# Altium footprint library Transistor.PcbLib: 227 footprints (part 9 of 15)
Each footprint in its own frame and in the unit in brackets; x right, y up, seen from the top. Pads: shape width x height; smd on the part's side, far side on the other; paste and mask are expansions set on the pad; w line width, h text height; cw(c..) or ccw(c..) is an arc to the next point about the centre after c.
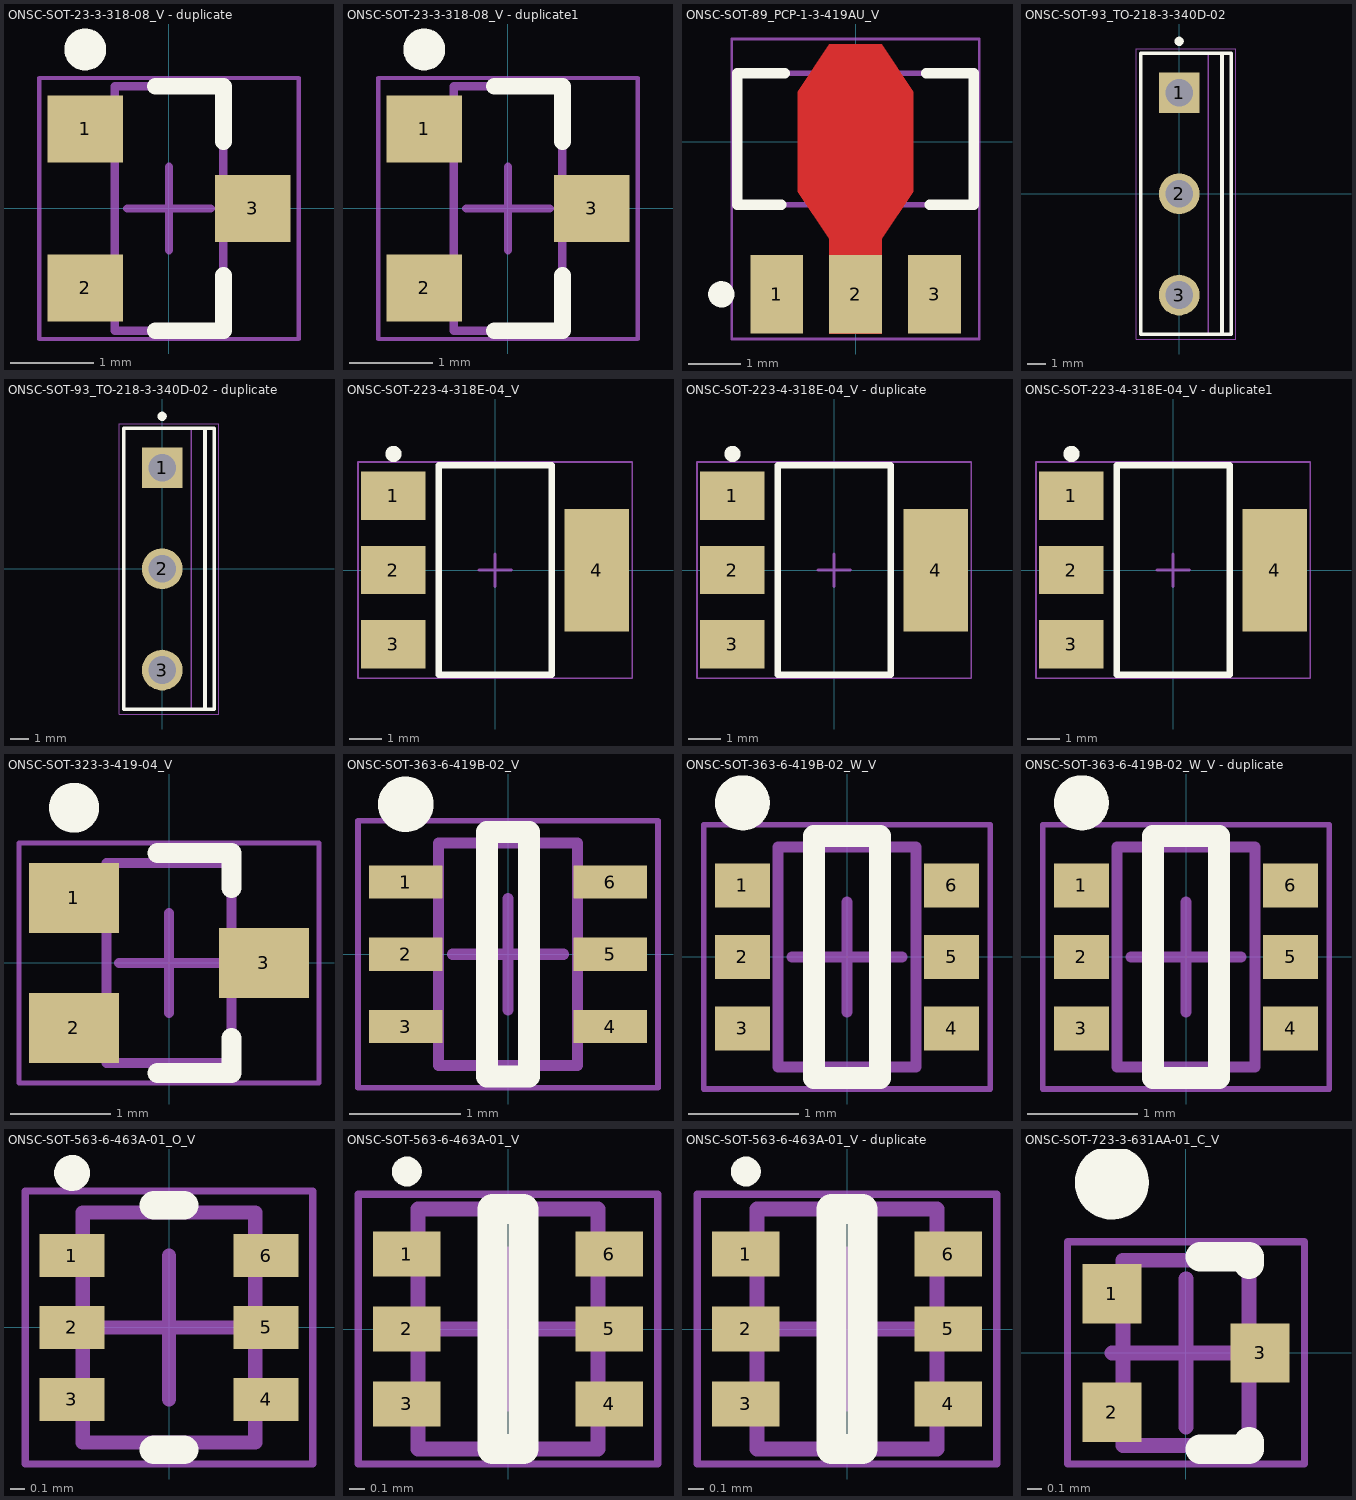
[diagram p8: the footprints below, top view; thin cyan lines are the x and y axes]

## ONSC-SOT-23-3-318-08_V - duplicate [mm] "SOT23, 3-Leads, Body 2.92x1.3mm, Pitch 0.95mm"
height 1.11
pads (3):
  rect 0.9x0.8 smd: 1(-1,0.95) 2(-1,-0.95) 3(1,0)
Top Overlay:
  circle w0.25: c-1,1.9 r0.125
  lines w0.2: -0.165,-1.46 0.65,-1.46 0.65,-0.8 ; -0.165,1.46 0.65,1.46 0.65,0.8
Mechanical 13:
  lines w0.1: -0.65,-1.46 -0.65,1.46 0.65,1.46 0.65,-1.46 -0.65,-1.46
Mechanical 15:
  lines w0.05: -1.55,-1.56 -1.55,1.56 1.55,1.56 1.55,-1.56 -1.55,-1.56
  lines w0.1: -0.5,0 0.5,0 ; 0,-0.5 0,0.5
3D body: height 1.11, standoff 0.01, extent -0.65,-1.46 0.65,1.46

## ONSC-SOT-23-3-318-08_V - duplicate1 [mm] "SOT23, 3-Leads, Body 2.92x1.3mm, Pitch 0.95mm"
height 1.11
pads (3):
  rect 0.9x0.8 smd: 1(-1,0.95) 2(-1,-0.95) 3(1,0)
Top Overlay:
  circle w0.25: c-1,1.9 r0.125
  lines w0.2: -0.165,-1.46 0.65,-1.46 0.65,-0.8 ; -0.165,1.46 0.65,1.46 0.65,0.8
Mechanical 13:
  lines w0.1: -0.65,-1.46 -0.65,1.46 0.65,1.46 0.65,-1.46 -0.65,-1.46
Mechanical 15:
  lines w0.05: -1.55,-1.56 -1.55,1.56 1.55,1.56 1.55,-1.56 -1.55,-1.56
  lines w0.1: -0.5,0 0.5,0 ; 0,-0.5 0,0.5
3D body: height 1.11, standoff 0.01, extent -0.65,-1.46 0.65,1.46

## ONSC-SOT-89_PCP-1-3-419AU_V [mm] "SOT89, 3-Leads, Body 4.5x2.5mm, Pitch 1.5mm"
height 1.6
pads (3):
  rect 1x1.5 smd: 1(-1.5,-2.9) 2(0,-2.9) 3(1.5,-2.9)
Top Layer:
  region: -0.5,-3.65 -0.5,-1.85 -1.1,-0.95 -1.1,0.95 -0.5,1.85 0.5,1.85 1.1,0.95 1.1,-0.95 0.5,-1.85 0.5,-3.65
Top Overlay:
  circle w0.25: c-2.55,-2.9 r0.125
  lines w0.2: -1.414,-1.2 -2.25,-1.2 -2.25,1.3 -1.347,1.3 ; 1.347,1.3 2.25,1.3 2.25,-1.2 1.414,-1.2
Top Paste:
  region: -0.5,-3.65 -0.5,-1.85 -1.1,-0.95 -1.1,0.95 -0.5,1.85 0.5,1.85 1.1,0.95 1.1,-0.95 0.5,-1.85 0.5,-3.65
Mechanical 13:
  lines w0.1: -2.25,-1.2 -2.25,1.3 2.25,1.3 2.25,-1.2 -2.25,-1.2
Mechanical 15:
  lines w0.05: -0.5,0 0.5,0 ; 0,-0.5 0,0.5 ; -2.35,-3.75 2.35,-3.75 2.35,1.95 -2.35,1.95 -2.35,-3.75
3D body: height 1.6, standoff 0, extent -2.25,-1.2 2.25,1.3

## ONSC-SOT-93_TO-218-3-340D-02 [mm] "FM, 3-Leads, Body 15.2x4.9mm, Pitch 5.475mm"
height 22.35
pads (3):
  rect 2.2x2.2 hole 1.5: 1(0,5.475)
  round 2.2 hole 1.5: 2(0,0) 3(0,-5.475)
Top Overlay:
  circle w0.25: c0,8.25 r0.125
  lines w0.2: 2.32,-7.6 2.32,7.6 ; -2.08,-7.6 -2.08,7.6 2.82,7.6 2.82,-7.6 -2.08,-7.6
Mechanical 13:
  lines w0.1: 1.57,-7.6 1.57,7.6 ; -2.08,-7.6 2.82,-7.6 2.82,7.6 -2.08,7.6 -2.08,-7.6
Mechanical 15:
  lines w0.05: -2.33,-7.85 3.07,-7.85 3.07,7.85 -2.33,7.85 -2.33,-7.85
  lines w0.1: -0.5,0 0.5,0 ; 0,-0.5 0,0.5
3D body: height 22.35, standoff 20.23, extent 1.57,-7.475 2.82,7.475
3D body: height 18.6, standoff 18.2, extent 1.57,-7.475 2.82,-2.025
3D body: height 18.6, standoff 18.2, extent 1.57,2.025 2.82,7.475
3D body: height 18.2, standoff 17.8, extent 1.57,-7.475 2.82,-2.025
3D body: height 18.2, standoff 17.8, extent 1.57,2.025 2.82,7.475
3D body: height 18.98, standoff 18.6, extent 1.57,-7.475 2.82,-1.986
3D body: height 18.98, standoff 18.6, extent 1.57,1.986 2.82,7.475
3D body: height 17.81, standoff 17.43, extent 1.57,-7.475 2.82,-1.986
3D body: height 17.81, standoff 17.43, extent 1.57,1.986 2.82,7.475
3D body: height 19.33, standoff 18.97, extent 1.57,-7.475 2.82,-1.871
3D body: height 19.33, standoff 18.97, extent 1.57,1.871 2.82,7.475
3D body: height 17.43, standoff 17.07, extent 1.57,-7.475 2.82,-1.871
3D body: height 17.43, standoff 17.07, extent 1.57,1.871 2.82,7.475
3D body: height 19.64, standoff 19.33, extent 1.57,-7.475 2.82,-1.684
3D body: height 19.64, standoff 19.33, extent 1.57,1.684 2.82,7.475
3D body: height 17.08, standoff 16.77, extent 1.57,-7.475 2.82,-1.684
3D body: height 17.08, standoff 16.77, extent 1.57,1.684 2.82,7.475
3D body: height 19.89, standoff 19.63, extent 1.57,-7.475 2.82,-1.432
3D body: height 19.89, standoff 19.63, extent 1.57,1.432 2.82,7.475
3D body: height 16.77, standoff 16.52, extent 1.57,-7.475 2.82,-1.432
3D body: height 16.77, standoff 16.52, extent 1.57,1.432 2.82,7.475
3D body: height 20.08, standoff 19.88, extent 1.57,-7.475 2.82,-1.125
3D body: height 20.08, standoff 19.88, extent 1.57,1.125 2.82,7.475
3D body: height 16.52, standoff 16.33, extent 1.57,-7.475 2.82,-1.125
3D body: height 16.52, standoff 16.33, extent 1.57,1.125 2.82,7.475
3D body: height 20.19, standoff 20.07, extent 1.57,-7.475 2.82,-0.775
3D body: height 20.19, standoff 20.07, extent 1.57,0.775 2.82,7.475
3D body: height 16.33, standoff 16.21, extent 1.57,-7.475 2.82,-0.775
3D body: height 16.33, standoff 16.21, extent 1.57,0.775 2.82,7.475
3D body: height 20.23, standoff 20.19, extent 1.57,-7.475 2.82,-0.395
3D body: height 20.23, standoff 20.19, extent 1.57,0.395 2.82,7.475
3D body: height 16.22, standoff 16.18, extent 1.57,-7.475 2.82,-0.395
3D body: height 16.22, standoff 16.18, extent 1.57,0.395 2.82,7.475
3D body: height 16.18, standoff 14.2, extent 1.57,-7.475 2.82,7.475
3D body: height 14.2, standoff 1.6, extent -2.08,-7.6 2.82,7.6
3D body: height 0, standoff -1.6, extent -0.32,-6.075 0.32,-4.875
3D body: height 1.6, standoff 0, extent -0.32,-6.275 0.32,-4.675
3D body: height 0, standoff -1.6, extent -0.32,-0.6 0.32,0.6
3D body: height 1.6, standoff 0, extent -0.32,-0.8 0.32,0.8
3D body: height 0, standoff -1.6, extent -0.32,4.875 0.32,6.075
3D body: height 1.6, standoff 0, extent -0.32,4.675 0.32,6.275

## ONSC-SOT-93_TO-218-3-340D-02 - duplicate [mm] "FM, 3-Leads, Body 15.2x4.9mm, Pitch 5.475mm"
height 22.35
pads (3):
  rect 2.2x2.2 hole 1.5: 1(0,5.475)
  round 2.2 hole 1.5: 2(0,0) 3(0,-5.475)
Top Overlay:
  circle w0.25: c0,8.25 r0.125
  lines w0.2: 2.32,-7.6 2.32,7.6 ; -2.08,-7.6 -2.08,7.6 2.82,7.6 2.82,-7.6 -2.08,-7.6
Mechanical 13:
  lines w0.1: 1.57,-7.6 1.57,7.6 ; -2.08,-7.6 2.82,-7.6 2.82,7.6 -2.08,7.6 -2.08,-7.6
Mechanical 15:
  lines w0.05: -2.33,-7.85 3.07,-7.85 3.07,7.85 -2.33,7.85 -2.33,-7.85
  lines w0.1: -0.5,0 0.5,0 ; 0,-0.5 0,0.5
3D body: height 22.35, standoff 20.23, extent 1.57,-7.475 2.82,7.475
3D body: height 18.6, standoff 18.2, extent 1.57,-7.475 2.82,-2.025
3D body: height 18.6, standoff 18.2, extent 1.57,2.025 2.82,7.475
3D body: height 18.2, standoff 17.8, extent 1.57,-7.475 2.82,-2.025
3D body: height 18.2, standoff 17.8, extent 1.57,2.025 2.82,7.475
3D body: height 18.98, standoff 18.6, extent 1.57,-7.475 2.82,-1.986
3D body: height 18.98, standoff 18.6, extent 1.57,1.986 2.82,7.475
3D body: height 17.81, standoff 17.43, extent 1.57,-7.475 2.82,-1.986
3D body: height 17.81, standoff 17.43, extent 1.57,1.986 2.82,7.475
3D body: height 19.33, standoff 18.97, extent 1.57,-7.475 2.82,-1.871
3D body: height 19.33, standoff 18.97, extent 1.57,1.871 2.82,7.475
3D body: height 17.43, standoff 17.07, extent 1.57,-7.475 2.82,-1.871
3D body: height 17.43, standoff 17.07, extent 1.57,1.871 2.82,7.475
3D body: height 19.64, standoff 19.33, extent 1.57,-7.475 2.82,-1.684
3D body: height 19.64, standoff 19.33, extent 1.57,1.684 2.82,7.475
3D body: height 17.08, standoff 16.77, extent 1.57,-7.475 2.82,-1.684
3D body: height 17.08, standoff 16.77, extent 1.57,1.684 2.82,7.475
3D body: height 19.89, standoff 19.63, extent 1.57,-7.475 2.82,-1.432
3D body: height 19.89, standoff 19.63, extent 1.57,1.432 2.82,7.475
3D body: height 16.77, standoff 16.52, extent 1.57,-7.475 2.82,-1.432
3D body: height 16.77, standoff 16.52, extent 1.57,1.432 2.82,7.475
3D body: height 20.08, standoff 19.88, extent 1.57,-7.475 2.82,-1.125
3D body: height 20.08, standoff 19.88, extent 1.57,1.125 2.82,7.475
3D body: height 16.52, standoff 16.33, extent 1.57,-7.475 2.82,-1.125
3D body: height 16.52, standoff 16.33, extent 1.57,1.125 2.82,7.475
3D body: height 20.19, standoff 20.07, extent 1.57,-7.475 2.82,-0.775
3D body: height 20.19, standoff 20.07, extent 1.57,0.775 2.82,7.475
3D body: height 16.33, standoff 16.21, extent 1.57,-7.475 2.82,-0.775
3D body: height 16.33, standoff 16.21, extent 1.57,0.775 2.82,7.475
3D body: height 20.23, standoff 20.19, extent 1.57,-7.475 2.82,-0.395
3D body: height 20.23, standoff 20.19, extent 1.57,0.395 2.82,7.475
3D body: height 16.22, standoff 16.18, extent 1.57,-7.475 2.82,-0.395
3D body: height 16.22, standoff 16.18, extent 1.57,0.395 2.82,7.475
3D body: height 16.18, standoff 14.2, extent 1.57,-7.475 2.82,7.475
3D body: height 14.2, standoff 1.6, extent -2.08,-7.6 2.82,7.6
3D body: height 0, standoff -1.6, extent -0.32,-6.075 0.32,-4.875
3D body: height 1.6, standoff 0, extent -0.32,-6.275 0.32,-4.675
3D body: height 0, standoff -1.6, extent -0.32,-0.6 0.32,0.6
3D body: height 1.6, standoff 0, extent -0.32,-0.8 0.32,0.8
3D body: height 0, standoff -1.6, extent -0.32,4.875 0.32,6.075
3D body: height 1.6, standoff 0, extent -0.32,4.675 0.32,6.275

## ONSC-SOT-223-4-318E-04_V [mm] "SOT223, 4-Leads, Body 6.5x3.5mm, Pitch 2.3mm"
height 1.75
pads (4):
  rect 2x1.5 smd: 1(-3.15,2.3) 2(-3.15,0) 3(-3.15,-2.3)
  rect 2x3.8 smd: 4(3.15,0)
Top Overlay:
  circle w0.25: c-3.15,3.6 r0.125
  lines w0.2: -1.75,-3.25 1.75,-3.25 1.75,3.25 -1.75,3.25 -1.75,-3.2
Mechanical 13:
  lines w0.1: -1.75,-3.25 1.75,-3.25 1.75,3.25 -1.75,3.25 -1.75,-3.25
Mechanical 15:
  lines w0.05: -4.25,-3.35 -4.25,3.35 4.25,3.35 4.25,-3.35 -4.25,-3.35
  lines w0.1: -0.5,0 0.5,0 ; 0,-0.5 0,0.5
3D body: height 1.75, standoff 0.02, extent -1.75,-3.25 1.75,3.25

## ONSC-SOT-223-4-318E-04_V - duplicate [mm] "SOT223, 4-Leads, Body 6.5x3.5mm, Pitch 2.3mm"
height 1.75
pads (4):
  rect 2x1.5 smd: 1(-3.15,2.3) 2(-3.15,0) 3(-3.15,-2.3)
  rect 2x3.8 smd: 4(3.15,0)
Top Overlay:
  circle w0.25: c-3.15,3.6 r0.125
  lines w0.2: -1.75,-3.25 1.75,-3.25 1.75,3.25 -1.75,3.25 -1.75,-3.2
Mechanical 13:
  lines w0.1: -1.75,-3.25 -1.75,3.25 1.75,3.25 1.75,-3.25 -1.75,-3.25
Mechanical 15:
  lines w0.05: -4.25,-3.35 4.25,-3.35 4.25,3.35 -4.25,3.35 -4.25,-3.35
  lines w0.1: -0.5,0 0.5,0 ; 0,-0.5 0,0.5
3D body: height 1.75, standoff 0.02, extent -1.75,-3.25 1.75,3.25

## ONSC-SOT-223-4-318E-04_V - duplicate1 [mm] "SOT223, 4-Leads, Body 6.5x3.5mm, Pitch 2.3mm"
height 1.75
pads (4):
  rect 2x1.5 smd: 1(-3.15,2.3) 2(-3.15,0) 3(-3.15,-2.3)
  rect 2x3.8 smd: 4(3.15,0)
Top Overlay:
  circle w0.25: c-3.15,3.6 r0.125
  lines w0.2: -1.75,-3.25 1.75,-3.25 1.75,3.25 -1.75,3.25 -1.75,-3.2
Mechanical 13:
  lines w0.1: -1.75,-3.25 -1.75,3.25 1.75,3.25 1.75,-3.25 -1.75,-3.25
Mechanical 15:
  lines w0.05: -4.25,-3.35 4.25,-3.35 4.25,3.35 -4.25,3.35 -4.25,-3.35
  lines w0.1: -0.5,0 0.5,0 ; 0,-0.5 0,0.5
3D body: height 1.75, standoff 0.02, extent -1.75,-3.25 1.75,3.25

## ONSC-SOT-323-3-419-04_V [mm] "SOT23, 3-Leads, Body 2x1.25mm, Pitch 0.65mm"
height 1
pads (3):
  rect 0.9x0.7 smd: 1(-0.95,0.65) 2(-0.95,-0.65) 3(0.95,0)
Top Overlay:
  circle w0.25: c-0.95,1.55 r0.125
  lines w0.2: -0.113,-1.1 0.625,-1.1 0.625,-0.75 ; -0.113,1.1 0.625,1.1 0.625,0.75
Mechanical 13:
  lines w0.1: -0.625,-1 0.625,-1 0.625,1 -0.625,1 -0.625,-1
Mechanical 15:
  lines w0.05: -1.5,-1.2 1.5,-1.2 1.5,1.2 -1.5,1.2 -1.5,-1.2
  lines w0.1: -0.5,0 0.5,0 ; 0,-0.5 0,0.5
3D body: height 1, standoff 0, extent -0.625,-1 0.625,1

## ONSC-SOT-363-6-419B-02_V [mm] "SOT23, 6-Leads, Body 2x1.25mm, Pitch 0.65mm"
height 1.1
pads (6):
  rect 0.66x0.3 smd: 1(-0.92,0.65) 2(-0.92,0) 3(-0.92,-0.65) 4(0.92,-0.65) 5(0.92,0) 6(0.92,0.65)
Top Overlay:
  circle w0.25: c-0.92,1.35 r0.125
  lines w0.2: -0.19,-1.1 -0.19,1.1 0.19,1.1 0.19,-1.1 -0.19,-1.1
Mechanical 13:
  lines w0.1: -0.625,-1 0.625,-1 0.625,1 -0.625,1 -0.625,-1
Mechanical 15:
  lines w0.05: -1.35,-1.2 1.35,-1.2 1.35,1.2 -1.35,1.2 -1.35,-1.2
  lines w0.1: -0.5,0 0.5,0 ; 0,-0.5 0,0.5
3D body: height 1.1, standoff 0, extent -0.625,-1 0.625,1

## ONSC-SOT-363-6-419B-02_W_V [mm] "SOT23, 6-Leads, Body 2x1.25mm, Pitch 0.65mm"
height 1.1
pads (6):
  rect 0.5x0.4 smd: 1(-0.95,0.65) 2(-0.95,0) 3(-0.95,-0.65) 4(0.95,-0.65) 5(0.95,0) 6(0.95,0.65)
Top Overlay:
  circle w0.25: c-0.95,1.4 r0.125
  lines w0.2: -0.3,-1.1 0.3,-1.1 0.3,1.1 -0.3,1.1 -0.3,-1.1
Mechanical 13:
  lines w0.1: -0.625,-1 -0.625,1 0.625,1 0.625,-1 -0.625,-1
Mechanical 15:
  lines w0.05: -1.3,-1.2 -1.3,1.2 1.3,1.2 1.3,-1.2 -1.3,-1.2
  lines w0.1: -0.5,0 0.5,0 ; 0,-0.5 0,0.5
3D body: height 1.1, standoff 0, extent -0.625,-1 0.625,1

## ONSC-SOT-363-6-419B-02_W_V - duplicate [mm] "SOT23, 6-Leads, Body 2x1.25mm, Pitch 0.65mm"
height 1.1
pads (6):
  rect 0.5x0.4 smd: 1(-0.95,0.65) 2(-0.95,0) 3(-0.95,-0.65) 4(0.95,-0.65) 5(0.95,0) 6(0.95,0.65)
Top Overlay:
  circle w0.25: c-0.95,1.4 r0.125
  lines w0.2: -0.3,-1.1 0.3,-1.1 0.3,1.1 -0.3,1.1 -0.3,-1.1
Mechanical 13:
  lines w0.1: -0.625,-1 -0.625,1 0.625,1 0.625,-1 -0.625,-1
Mechanical 15:
  lines w0.05: -1.3,-1.2 -1.3,1.2 1.3,1.2 1.3,-1.2 -1.3,-1.2
  lines w0.1: -0.5,0 0.5,0 ; 0,-0.5 0,0.5
3D body: height 1.1, standoff 0, extent -0.625,-1 0.625,1

## ONSC-SOT-563-6-463A-01_O_V [mm] "SOT23, 6-Leads, Body 1.6x1.2mm, Pitch 0.5mm"
height 0.6
pads (6):
  rect 0.45x0.3 smd: 1(-0.675,0.5) 2(-0.675,0) 3(-0.675,-0.5) 4(0.675,-0.5) 5(0.675,0) 6(0.675,0.5)
Top Overlay:
  circle w0.125: c-0.675,1.075 r0.062
  lines w0.2: -0.104,-0.85 0.104,-0.85 ; -0.104,0.85 0.104,0.85
Mechanical 13:
  lines w0.1: -0.6,-0.8 -0.6,0.8 0.6,0.8 0.6,-0.8 -0.6,-0.8
Mechanical 15:
  lines w0.05: -1,-0.95 -1,0.95 1,0.95 1,-0.95 -1,-0.95
  lines w0.1: -0.5,0 0.5,0 ; 0,-0.5 0,0.5
3D body: height 0.6, standoff 0, extent -0.6,-0.8 0.6,0.8

## ONSC-SOT-563-6-463A-01_V [mm] "SOT23, 6-Leads, Body 1.6x1.2mm, Pitch 0.5mm"
height 0.6
pads (6):
  rect 0.45x0.3 smd: 1(-0.675,0.5) 2(-0.675,0) 3(-0.675,-0.5) 4(0.675,-0.5) 5(0.675,0) 6(0.675,0.5)
Top Overlay:
  circle w0.1: c-0.675,1.05 r0.05
  lines w0.2: -0.104,-0.8 0.104,-0.8 0.104,0.8 -0.104,0.8 -0.104,-0.8
Mechanical 13:
  lines w0.1: -0.6,-0.8 -0.6,0.8 0.6,0.8 0.6,-0.8 -0.6,-0.8
Mechanical 15:
  lines w0.05: -1,-0.9 -1,0.9 1,0.9 1,-0.9 -1,-0.9
  lines w0.1: -0.5,0 0.5,0 ; 0,-0.5 0,0.5
3D body: height 0.6, standoff 0, extent -0.6,-0.8 0.6,0.8

## ONSC-SOT-563-6-463A-01_V - duplicate [mm] "SOT23, 6-Leads, Body 1.6x1.2mm, Pitch 0.5mm"
height 0.6
pads (6):
  rect 0.45x0.3 smd: 1(-0.675,0.5) 2(-0.675,0) 3(-0.675,-0.5) 4(0.675,-0.5) 5(0.675,0) 6(0.675,0.5)
Top Overlay:
  circle w0.1: c-0.675,1.05 r0.05
  lines w0.2: -0.104,-0.8 0.104,-0.8 0.104,0.8 -0.104,0.8 -0.104,-0.8
Mechanical 13:
  lines w0.1: -0.6,-0.8 -0.6,0.8 0.6,0.8 0.6,-0.8 -0.6,-0.8
Mechanical 15:
  lines w0.05: -1,-0.9 -1,0.9 1,0.9 1,-0.9 -1,-0.9
  lines w0.1: -0.5,0 0.5,0 ; 0,-0.5 0,0.5
3D body: height 0.6, standoff 0, extent -0.6,-0.8 0.6,0.8

## ONSC-SOT-723-3-631AA-01_C_V [mm] "SOT23, 3-Leads, Body 1.25x0.85mm, Pitch 0.4mm"
height 0.55
pads (3):
  rect 0.4x0.4 smd: 1(-0.5,0.4) 2(-0.5,-0.4) 3(0.5,0)
Top Overlay:
  circle w0.25: c-0.5,1.15 r0.125
  lines w0.2: 0.097,-0.65 0.425,-0.65 0.425,-0.6 ; 0.097,0.65 0.425,0.65 0.425,0.6
Mechanical 13:
  lines w0.1: -0.425,-0.625 -0.425,0.625 0.425,0.625 0.425,-0.625 -0.425,-0.625
Mechanical 15:
  lines w0.05: -0.8,-0.75 -0.8,0.75 0.8,0.75 0.8,-0.75 -0.8,-0.75
  lines w0.1: -0.5,0 0.5,0 ; 0,-0.5 0,0.5
3D body: height 0.55, standoff 0, extent -0.425,-0.625 0.425,0.625